# Altium footprint library NPN-tranzystor.PcbLib: 1 footprints
Each footprint in its own frame and in the unit in brackets; x right, y up, seen from the top. Pads: shape width x height; smd on the part's side, far side on the other; paste and mask are expansions set on the pad; w line width, h text height; cw(c..) or ccw(c..) is an arc to the next point about the centre after c.
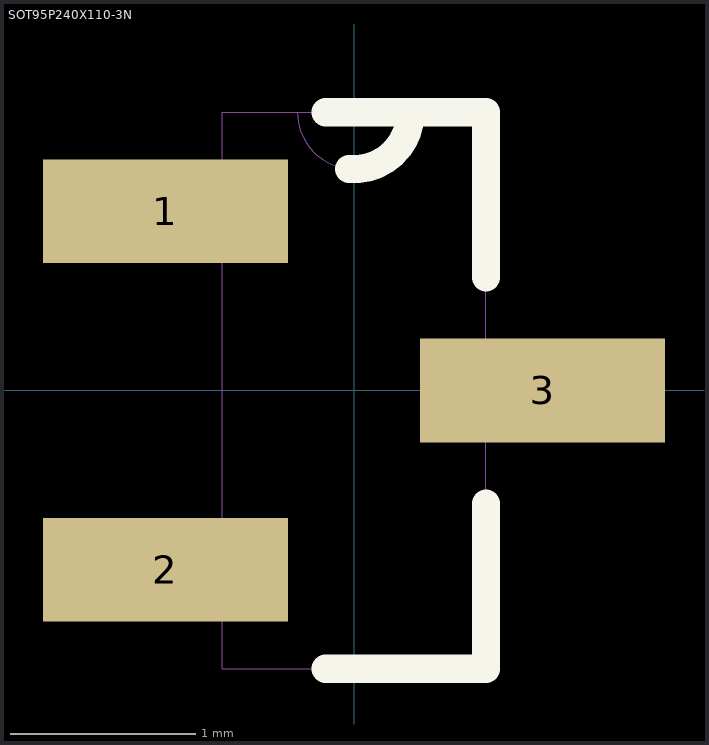
[diagram p0: the footprint, top view; thin cyan lines are the x and y axes]

## SOT95P240X110-3N [mil]
pads (3):
  rect 52x22 smd: 1(-40,38) 2(-40,-38) 3(40,0)
Top Overlay:
  lines w6: -6,-59 28,-59 28,-24 ; -6,59 12,59 28,59 28,24 ; -1.04,47 ccw(c0,58.96) 12,58.96
Assembly Top:
  lines w0: -28,-48 -28,-59 28,-59 28,-10 ; -28,-48 -28,-28 ; -28,-48 -49,-48 -49,-28 -28,-28 ; -28,-28 -28,28 ; -28,28 -28,48 ; -28,28 -49,28 -49,48 -28,48 ; -28,48 -28,59 -12,59 ; -12,59 ccw(c0,59) 12,59 ; -12,59 12,59 ; 12,59 28,59 28,10 ; 28,-10 28,10 ; 28,-10 49,-10 49,10 28,10
3D body "step_temp.STEP": height 44.09, standoff 0, extent -47.64,-59.06 47.64,59.06